# Altium footprint library HDR5.00-X2.PcbLib: 1 footprints
Each footprint in its own frame and in the unit in brackets; x right, y up, seen from the top. Pads: shape width x height; smd on the part's side, far side on the other; paste and mask are expansions set on the pad; w line width, h text height; cw(c..) or ccw(c..) is an arc to the next point about the centre after c.
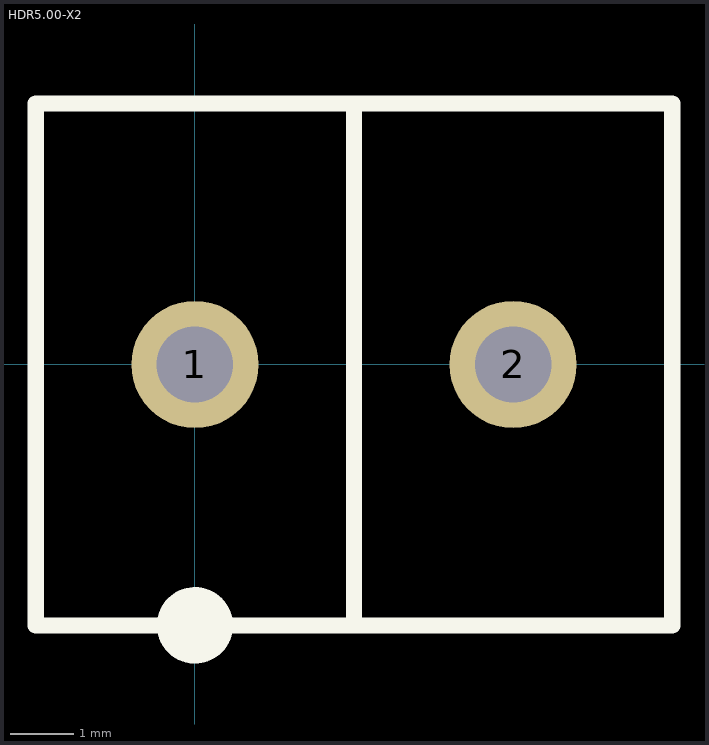
[diagram p0: the footprint, top view; thin cyan lines are the x and y axes]

## HDR5.00-X2 [mm] "Terminal Blocks - Wire to Board HDR 5.0 Pitch,X2"
height 10
pads (2):
  round 2 hole 1.2: 1(0,0) 2(5,0)
Top Overlay:
  circle w0.6: c0,-4.1 r0.3
  lines w0.254: 2.5,-4.1 2.5,4.1 ; -2.5,-4.1 -2.5,4.1 7.5,4.1 7.5,-4.1 -2.5,-4.1
3D body: height 10, standoff -3.5, extent -2.515,-4.125 8.085,4.075